# EAGLE library part LY-BM-01 (library LY-BM-01)
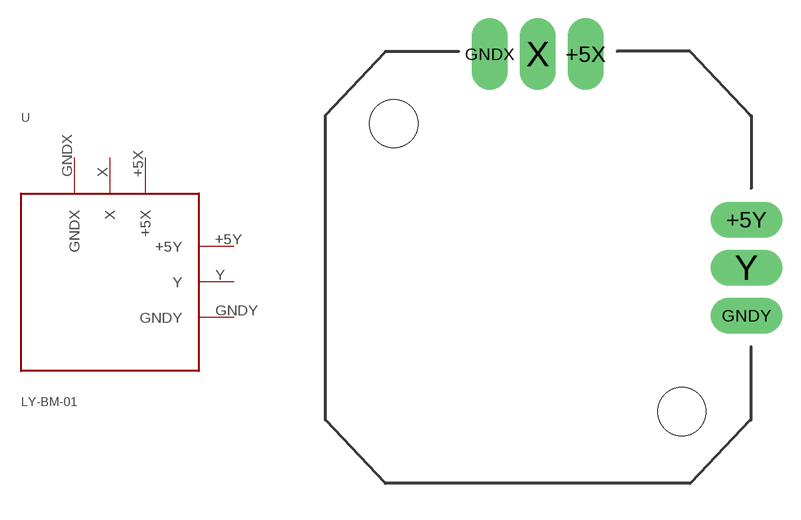
[diagram p0: symbol with the pads of LY-BM-01; footprint LY-BM-01]

Designator prefix -

## LY-BM-01  [LY-BM-01]
+5X  +5X
+5Y  +5Y
GNDX  GNDX
GNDY  GNDY
X  X
Y  Y

## Footprint LY-BM-01 (pad centres in mm)
drill 1 long: +5X 2,8.9; +5Y 8.7,2; GNDX -2,8.9; GNDY 8.7,-2; X 0,8.9; Y 8.7,0
hole 2 at -6,6
hole 2 at 6,-6